# EAGLE library part SGTL5000 (library teensy-synth)
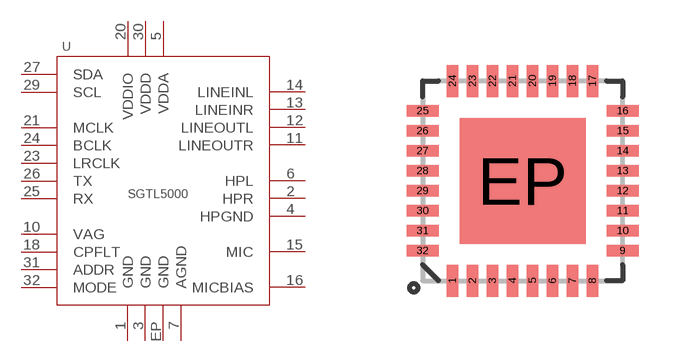
[diagram p3: symbol with the pads of QFN-32; footprint QFN-32]

Designator prefix U

## SGTL5000QFN-32 (VALUE: SGTL5000)  [QFN-32]
1  GND
2  HPR
3  GND
4  HPGND
5  VDDA
6  HPL
7  AGND
10  VAG
11  LINEOUTR
12  LINEOUTL
13  LINEINR
14  LINEINL
15  MIC
16  MICBIAS
18  CPFLT
20  VDDIO
21  MCLK
23  LRCLK
24  BCLK
25  RX
26  TX
27  SDA
29  SCL
30  VDDD
31  ADDR
32  MODE
EP  GND

## Footprint QFN-32 (pad centres in mm)
QFN 32-Pin package w/ Thermal Pad ***Unproven*** Applicable Parts: TLC5940
smd 0.285 x 0.8: 1 -1.75,-2.5; 2 -1.25,-2.5; 3 -0.75,-2.5; 4 -0.25,-2.5; 5 0.25,-2.5; 6 0.75,-2.5; 7 1.25,-2.5; 8 1.75,-2.5; 17 1.75,2.5; 18 1.25,2.5; 19 0.75,2.5; 20 0.25,2.5; 21 -0.25,2.5; 22 -0.75,2.5; 23 -1.25,2.5; 24 -1.75,2.5
smd 0.8 x 0.285: 9 2.5,-1.75; 10 2.5,-1.25; 11 2.5,-0.75; 12 2.5,-0.25; 13 2.5,0.25; 14 2.5,0.75; 15 2.5,1.25; 16 2.5,1.75; 25 -2.5,1.75; 26 -2.5,1.25; 27 -2.5,0.75; 28 -2.5,0.25; 29 -2.5,-0.25; 30 -2.5,-0.75; 31 -2.5,-1.25; 32 -2.5,-1.75
smd 3.15 x 3.15: EP 0,0